# Altium schematic symbol library LM5085.Schlib: 1 symbol
Pins are listed as number, name and electrical type; pins without a type are passive.

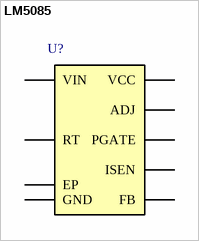
[diagram p0: symbol LM5085]

## LM5085
designator U?  (value not drawn)
REG, SW Buck Controller, LM5085
pins: 1 ADJ, 2 RT, 3 FB, 4 GND, 5 ISEN, 6 PGATE, 7 VCC, 8 VIN, 9 EP